# EAGLE library part BA7230LS (library ROHM_Video_Encoder)
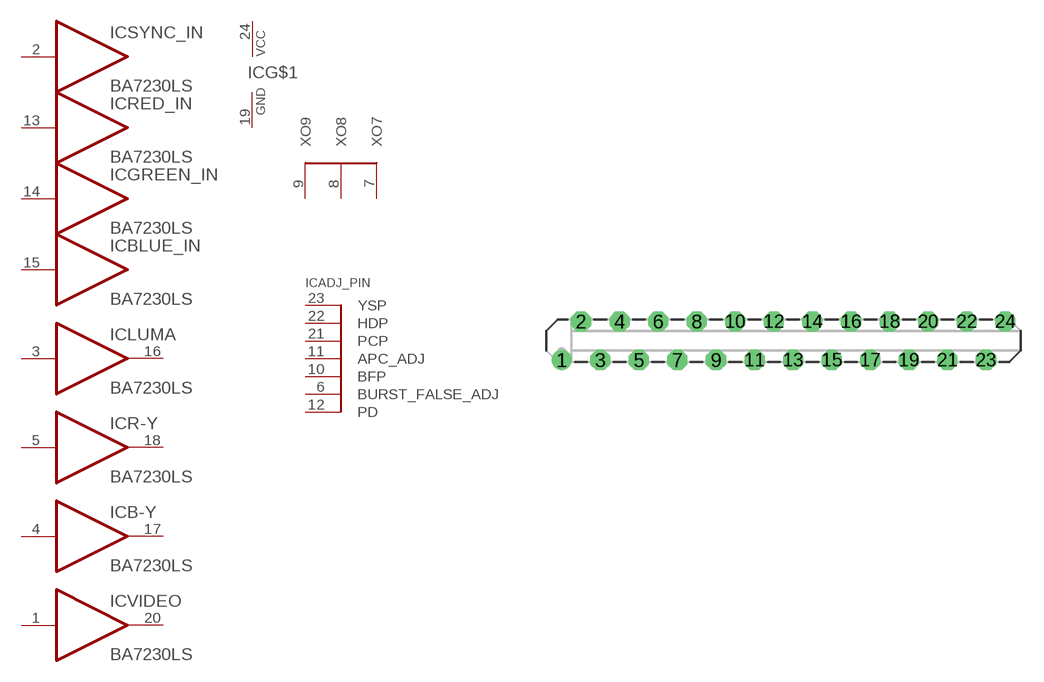
[diagram p1: symbol with the pads of ZIP24; footprint ZIP24]

Designator prefix IC; gates R-Y=BUFFER RED_IN=BUFFERNOOUT GREEN_IN=BUFFERNOOUT BLUE_IN=BUFFERNOOUT LUMA=BUFFER B-Y=BUFFER VIDEO=BUFFER SYNC_IN=BUFFERNOOUT G$1=PWRN VCXO=XTAL ADJ_PIN=BA7230LS

## BA7230LS (IC: BA7230LS)  [ZIP24]
1  VIDEO:I
2  SYNC_IN:I
3  LUMA:I
4  B-Y:I
5  R-Y:I
6  ADJ_PIN:BURST_FALSE_ADJ
7  VCXO:XO7  in
8  VCXO:XO8  in
9  VCXO:XO9  in
10  ADJ_PIN:BFP  in
11  ADJ_PIN:APC_ADJ  pas
12  ADJ_PIN:PD  pas
13  RED_IN:I
14  GREEN_IN:I
15  BLUE_IN:I
16  LUMA:O  out
17  B-Y:O  out
18  R-Y:O  out
19  G$1:GND  pwr
20  VIDEO:O  out
21  ADJ_PIN:PCP  in
22  ADJ_PIN:HDP  in
23  ADJ_PIN:YSP  in
24  G$1:VCC  pwr

## Footprint ZIP24 (pad centres in mm)
Single In Line Socked
drill 0.813: 1 -14.605,-1.27
drill 0.813 octagon: 2 -13.335,1.27; 3 -12.065,-1.27; 4 -10.795,1.27; 5 -9.525,-1.27; 6 -8.255,1.27; 7 -6.985,-1.27; 8 -5.715,1.27; 9 -4.445,-1.27; 10 -3.175,1.27; 11 -1.905,-1.27; 12 -0.635,1.27; 13 0.635,-1.27; 14 1.905,1.27; 15 3.175,-1.27; 16 4.445,1.27; 17 5.715,-1.27; 18 6.985,1.27; 19 8.255,-1.27; 20 9.525,1.27; 21 10.795,-1.27; 22 12.065,1.27; 23 13.335,-1.27; 24 14.605,1.27